# Altium integrated library ADP5070ACPZ.IntLib: 1 symbol
Pins are listed as number, name and electrical type; pins without a type are passive.

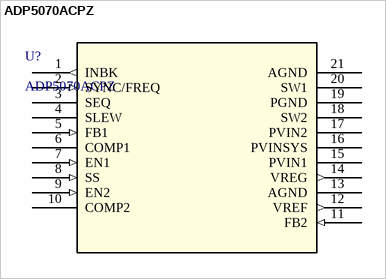
[diagram p0: symbol ADP5070ACPZ]

## ADP5070ACPZ
designator U?
1 A/0.6 A, DC-to-DC Switching Regulator with Independent Positive and Negative Outputs; Manufacturer_Name: Analog Devices Inc; Type: Power Management; Copyright: Copyright (C) 2025 Ultra Librarian. All rights reserved.; Manufacturer_Part_Number: ADP5070ACPZ; RefDes: RefDes
footprint CP-20-8_ADI
pins: 1 INBK (out), 2 SYNC/FREQ (in), 3 SEQ, 4 SLEW, 5 FB1 (in), 6 COMP1, 7 EN1 (in), 8 SS (in), 9 EN2 (in), 10 COMP2, 11 FB2 (in), 12 VREF (out), 13 AGND (power), 14 VREG (out), 15 PVIN1 (power), 16 PVINSYS (power), 17 PVIN2 (power), 18 SW2 (power), 19 PGND (power), 20 SW1 (power), 21 AGND (power)